# Altium integrated library ABMM-12.000MHZ-B2-T.IntLib: 1 symbol
Pins are listed as number, name and electrical type; pins without a type are passive.

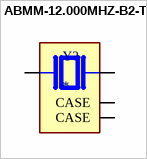
[diagram p0: symbol ABMM-12.000MHZ-B2-T]

## ABMM-12.000MHZ-B2-T
designator Y?
MP: ABMM-12.000MHZ-B2-T; Price: None; Package: None; Availability: Unavailable; Value: *
footprint XTAL_ABMM-12.000MHZ-B2-T
pins: 1, 2 CASE, 3, 4 CASE